# Altium integrated library TSW-108-08-T-T.IntLib: 1 symbol
Pins are listed as number, name and electrical type; pins without a type are passive.

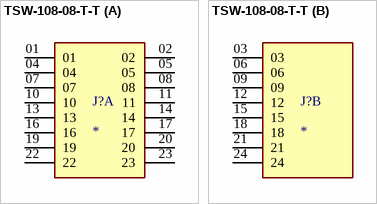
[diagram p0: symbol TSW-108-08-T-T]

## TSW-108-08-T-T
designator J?
MP: TSW-108-08-T-T; Package: None; Price: None; Value: *; Availability: Unavailable
footprint SAMTEC_TSW-108-08-T-T
part A pins: 01, 02, 04, 05, 07, 08, 10, 11, 13, 14, 16, 17, 19, 20, 22, 23
part B pins: 03, 06, 09, 12, 15, 18, 21, 24